# EAGLE library part FPC-22P (library Generic Connector)
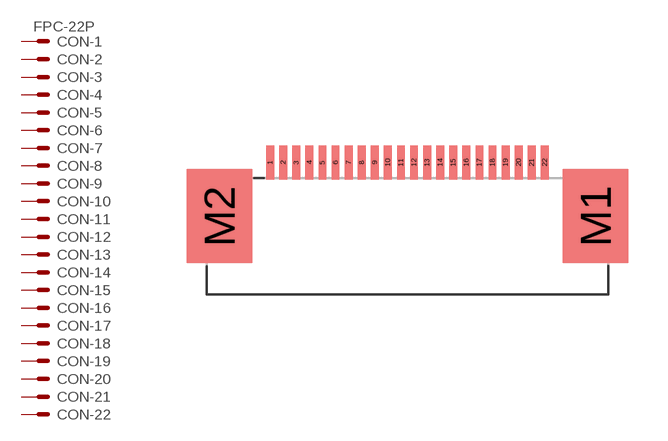
[diagram p5: symbol with the pads of FPC-22P; footprint FPC-22P]

Designator prefix CON; gates -2=K -1=KV -3=K -4=K -5=K -6=K -7=K -8=K -9=K -10=K -11=K -12=K -13=K -14=K -15=K -17=K -18=K -19=K -20=K -21=K -22=K -16=K

## FPC-22P  [FPC-22P]
1  -1:S  pas
2  -2:S  pas
3  -3:S  pas
4  -4:S  pas
5  -5:S  pas
6  -6:S  pas
7  -7:S  pas
8  -8:S  pas
9  -9:S  pas
10  -10:S  pas
11  -11:S  pas
12  -12:S  pas
13  -13:S  pas
14  -14:S  pas
15  -15:S  pas
16  -16:S  pas
17  -17:S  pas
18  -18:S  pas
19  -19:S  pas
20  -20:S  pas
21  -21:S  pas
22  -22:S  pas

## Footprint FPC-22P (pad centres in mm)
smd 0.3 x 1.3: 1 -5.25,3.5; 2 -4.75,3.5; 3 -4.25,3.5; 4 -3.75,3.5; 5 -3.25,3.5; 6 -2.75,3.5; 7 -2.25,3.5; 8 -1.75,3.5; 9 -1.25,3.5; 10 -0.75,3.5; 11 -0.25,3.5; 12 0.25,3.5; 13 0.75,3.5; 14 1.25,3.5; 15 1.75,3.5; 16 2.25,3.5; 17 2.75,3.5; 18 3.25,3.5; 19 3.75,3.5; 20 4.25,3.5; 21 4.75,3.5; 22 5.25,3.5
smd 2.5 x 3.6: M1 7.19,1.45; M2 -7.19,1.45